# Altium integrated library OF-SMD3528WC.IntLib: 1 symbol
Pins are listed as number, name and electrical type; pins without a type are passive.

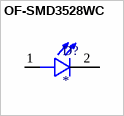
[diagram p0: symbol OF-SMD3528WC]

## OF-SMD3528WC
designator D?
LED; SMD; 3528, PLCC2; white cold; 1700-2500mcd; 120Â°; 2; MP: OF-SMD3528WC; MF: Optoflash; Package: PLCC-2 Optoflash; Price: None; SnapEDA_Link: https://www.snapeda.com/parts/OF-SMD3528WC/Optoflash/view-part/702333/?ref=snap; Check_prices: https://www.snapeda.com/parts/OF-SMD3528WC/Optoflash/view-part/702333/?ref=eda; Value: *; Availability: Unavailable
footprint LED_OF-SMD3528WC
pins: 1 A, 2 C